# Altium footprint library pad.PcbLib: 2 footprints
Each footprint in its own frame and in the unit in brackets; x right, y up, seen from the top. Pads: shape width x height; smd on the part's side, far side on the other; paste and mask are expansions set on the pad; w line width, h text height; cw(c..) or ccw(c..) is an arc to the next point about the centre after c.
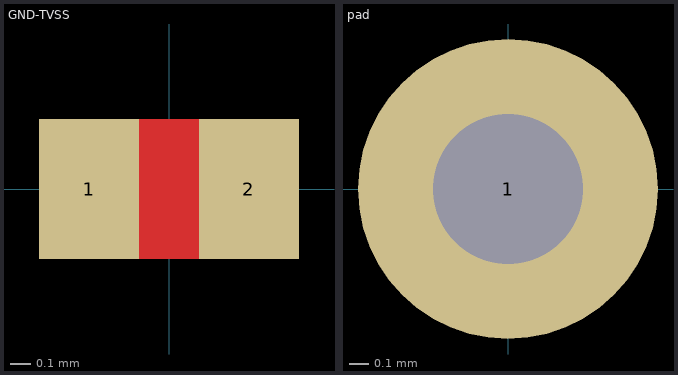
[diagram p0: the footprints below, top view; thin cyan lines are the x and y axes]

## GND-TVSS [mm]
pads (2):
  rect 0.5x0.7 smd mask-1: 1(-0.4,0) 2(0.4,0)
Top Layer:
  lines w0.7: -0.2,0 0.2,0

## pad [mil]
pads (1):
  round 60 hole 30: 1(0,0)